# Altium footprint library PCB1.PcbLib: 43 footprints (part 1 of 3)
Each footprint in its own frame and in the unit in brackets; x right, y up, seen from the top. Pads: shape width x height; smd on the part's side, far side on the other; paste and mask are expansions set on the pad; w line width, h text height; cw(c..) or ccw(c..) is an arc to the next point about the centre after c.
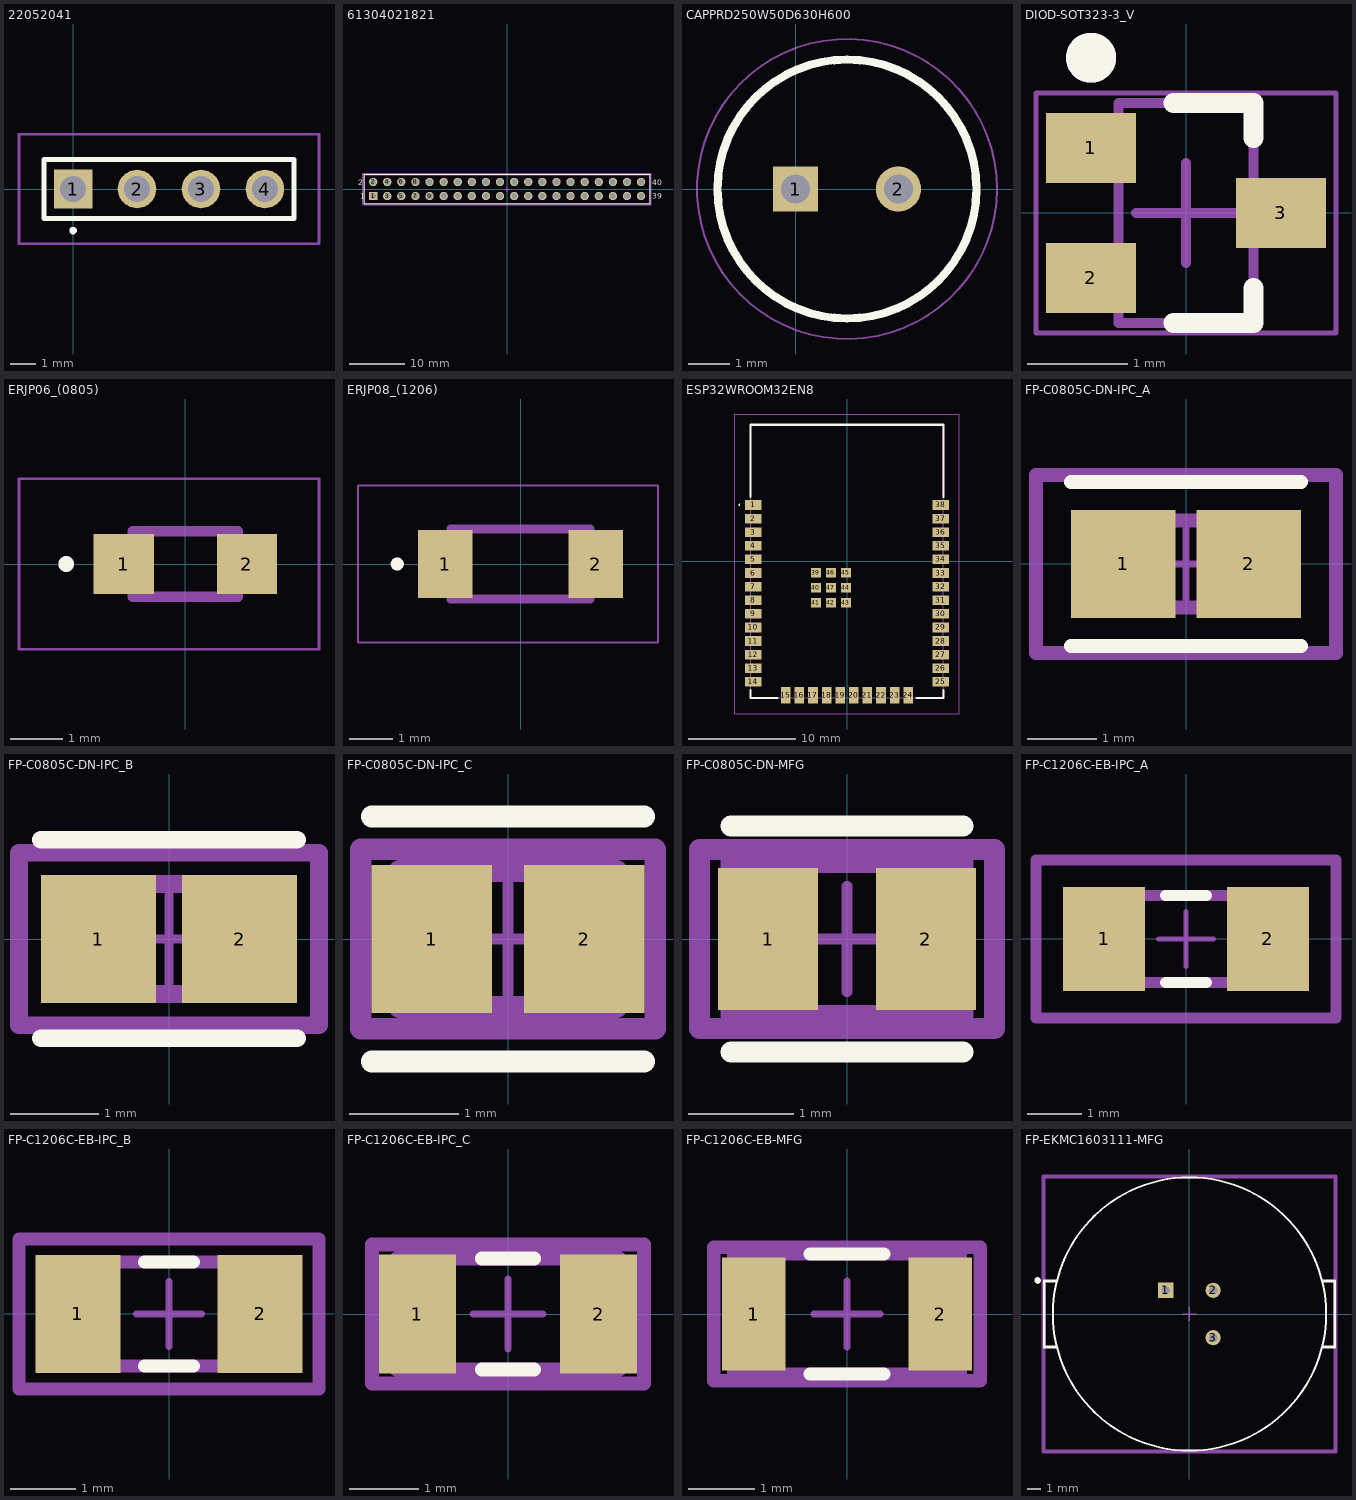
[diagram p0: the footprints below, top view; thin cyan lines are the x and y axes]

## 22052041 [mm]
pads (4):
  rect 1.53x1.53 hole 1.02: 1(0,0)
  round 1.53 hole 1.02: 2(2.54,0) 3(5.08,0) 4(7.62,0)
Top Overlay:
  lines w0.2: 0,-1.7 cw(c0,-1.65) 0,-1.6 ; 0,-1.7 ccw(c0,-1.65) 0,-1.6 ; 0,-1.7 cw(c0,-1.65) 0,-1.6 ; -1.145,-1.18 8.765,-1.18 8.765,1.18 -1.145,1.18 -1.145,-1.18
Top Assembly:
  lines w0.1: -1.145,-1.18 8.765,-1.18 8.765,1.18 -1.145,1.18 -1.145,-1.18
  text "'.Designator'" at -0.9,-0.812 h1
Top 3D Body:
  lines w0.1: -1.145,-1.18 8.765,-1.18 8.765,1.18 -1.145,1.18 -1.145,-1.18
Top Courtyard:
  lines w0.1: -2.145,-2.18 9.765,-2.18 9.765,2.18 -2.145,2.18 -2.145,-2.18
3D body "22-05-2041.stp": height 6.3, standoff -3.15, extent -1.143,-1.149 8.763,9.023

## 61304021821 [mm] "Socket Header, Pitch 2.54 mm, THT, Vertical, dual row, 40p"
height 8.4
pads (40):
  rect 1.5x1.5 hole 1.02: 1(-24.13,-1.27)
  round 1.5 hole 1.02: 2(-24.13,1.27) 3(-21.59,-1.27) 4(-21.59,1.27) 5(-19.05,-1.27) 6(-19.05,1.27) 7(-16.51,-1.27) 8(-16.51,1.27) 9(-13.97,-1.27) 10(-13.97,1.27) 11(-11.43,-1.27) 12(-11.43,1.27) 13(-8.89,-1.27) 14(-8.89,1.27) 15(-6.35,-1.27) 16(-6.35,1.27) 17(-3.81,-1.27) 18(-3.81,1.27) 19(-1.27,-1.27) 20(-1.27,1.27) 21(1.27,-1.27) 22(1.27,1.27) 23(3.81,-1.27) 24(3.81,1.27) 25(6.35,-1.27) 26(6.35,1.27) 27(8.89,-1.27) 28(8.89,1.27) 29(11.43,-1.27) 30(11.43,1.27) 31(13.97,-1.27) 32(13.97,1.27) 33(16.51,-1.27) 34(16.51,1.27) 35(19.05,-1.27) 36(19.05,1.27) 37(21.59,-1.27) 38(21.59,1.27) 39(24.13,-1.27) 40(24.13,1.27)
Top Overlay:
  lines w0.2: -25.775,-2.615 -25.775,2.615 25.775,2.615 25.775,-2.615 -25.775,-2.615
  text "39" at 26.16,-1.8 h1.02
  text "40" at 26.16,0.7 h1.02
  text "2" at -26.86,0.7 h1.02
  text "1" at -26.46,-1.8 h1.02
Top Assembly:
  lines w0.1: -25.65,-2.54 25.65,-2.54 25.65,2.54 -25.65,2.54 -25.65,-2.54
  text "'.Designator'" at -25.2,-2.012 h1
Top 3D Body:
  lines w0.1: -25.65,-2.54 25.65,-2.54 25.65,2.54 -25.65,2.54 -25.65,-2.54
Top Courtyard:
  lines w0.05: -0.5,0 0.5,0 ; 0,-0.5 0,0.5 ; -25.975,-2.815 25.975,-2.815 25.975,2.815 -25.975,2.815 -25.975,-2.815
3D body "61304021821.stp": height 8.45, standoff -3.05, extent -25.65,-2.54 25.65,2.54

## CAPPRD250W50D630H600 [mm]
pads (2):
  rect 1.1x1.1 hole 0.7: 1(0,0)
  round 1.1 hole 0.7: 2(2.5,0)
Top Overlay:
  circle w0.2: c1.25,0 r3.15
Top Assembly:
  circle w0.1: c1.25,0 r3.15
  text "'.Designator'" at -1.1,-1.412 h1
Top 3D Body:
  circle w0.1: c1.25,0 r3.15
Top Courtyard:
  circle w0.05: c1.25,0 r3.65
3D body "ECE-A0JKS101B.stp": height 6, standoff -10, extent -2.15,-3.4 4.65,3.4

## DIOD-SOT323-3_V [mm] "SOT323, 3-Leads, Body 2.2x1.35mm, Pitch 0.65mm"
height 1.071
pads (3):
  rect 0.9x0.7 smd: 1(-0.95,0.65) 2(-0.95,-0.65) 3(0.95,0)
Top Overlay:
  circle w0.25: c-0.95,1.55 r0.125
  lines w0.2: -0.125,-1.1 0.675,-1.1 0.675,-0.75 ; -0.125,1.1 0.675,1.1 0.675,0.75
Top Assembly:
  circle w0.25: c-0.95,1.55 r0.125
  lines w0.1: -0.675,-1.1 0.675,-1.1 0.675,1.1 -0.675,1.1 -0.675,-1.1
  text "'.Designator'" at 0.312,-0.9 h1
Top 3D Body:
  lines w0.1: -0.675,-1.1 0.675,-1.1 0.675,1.1 -0.675,1.1 -0.675,-1.1
Top Courtyard:
  lines w0.05: -1.5,-1.2 1.5,-1.2 1.5,1.2 -1.5,1.2 -1.5,-1.2
  lines w0.1: -0.5,0 0.5,0 ; 0,-0.5 0,0.5
3D body "SOT65P210X107-3L.step": height 1.07, standoff 0, extent -1.1,-1.1 1.1,1.1

## ERJP06_(0805) [mm]
pads (2):
  rect 1.15x1.15 smd: 1(-1.175,0) 2(1.175,0)
Top Overlay:
  circle w0.2: c-2.275,0 r0.05
Top Assembly:
  lines w0.2: -1,-0.625 -1,0.625 1,0.625 1,-0.625 -1,-0.625
  text "'.Designator'" at -0.85,-0.287 h1
Top 3D Body:
  lines w0.2: -1,-0.625 -1,0.625 1,0.625 1,-0.625 -1,-0.625
Top Courtyard:
  lines w0.05: -3.175,-1.625 -3.175,1.625 2.55,1.625 2.55,-1.625 -3.175,-1.625
3D body "ERJ-P06D6801V.stp": height 0.6, standoff 0, extent -1,-0.625 1,0.625

## ERJP08_(1206) [mm]
pads (2):
  rect 1.25x1.55 smd: 1(-1.725,0) 2(1.725,0)
Top Overlay:
  circle w0.2: c-2.825,0 r0.05
Top Assembly:
  lines w0.2: -1.6,-0.8 1.6,-0.8 1.6,0.8 -1.6,0.8 -1.6,-0.8
  text "'.Designator'" at -1.375,-0.412 h1
Top 3D Body:
  lines w0.2: -1.6,-0.8 1.6,-0.8 1.6,0.8 -1.6,0.8 -1.6,-0.8
Top Courtyard:
  lines w0.05: -3.725,-1.8 3.15,-1.8 3.15,1.8 -3.725,1.8 -3.725,-1.8
3D body "ERJ-P08D1002V.stp": height 0.6, standoff 0, extent -1.6,-0.8 1.6,0.8

## ESP32WROOM32EN8 [mm]
pads (47):
  rect 1.5x0.9 smd: 1(-8.75,5.26) 2(-8.75,3.99) 3(-8.75,2.72) 4(-8.75,1.45) 5(-8.75,0.18) 6(-8.75,-1.09) 7(-8.75,-2.36) 8(-8.75,-3.63) 9(-8.75,-4.9) 10(-8.75,-6.17) 11(-8.75,-7.44) 12(-8.75,-8.71) 13(-8.75,-9.98) 14(-8.75,-11.25) 25(8.75,-11.25) 26(8.75,-9.98) 27(8.75,-8.71) 28(8.75,-7.44) 29(8.75,-6.17) 30(8.75,-4.9) 31(8.75,-3.63) 32(8.75,-2.36) 33(8.75,-1.09) 34(8.75,0.18) 35(8.75,1.45) 36(8.75,2.72) 37(8.75,3.99) 38(8.75,5.26)
  rect 0.9x1.5 smd: 15(-5.715,-12.5) 16(-4.445,-12.5) 17(-3.175,-12.5) 18(-1.905,-12.5) 19(-0.635,-12.5) 20(0.635,-12.5) 21(1.905,-12.5) 22(3.175,-12.5) 23(4.445,-12.5) 24(5.715,-12.5)
  rect 0.9x0.9 smd: 39(-2.9,-1.06) 40(-2.9,-2.46) 41(-2.9,-3.86) 42(-1.5,-3.86) 43(-0.1,-3.86) 44(-0.1,-2.46) 45(-0.1,-1.06) 46(-1.5,-1.06) 47(-1.5,-2.46)
Top Overlay:
  lines w0.1: -10.1,5.26 cw(c-10.05,5.26) -10,5.26 cw(c-10.05,5.26) -10.1,5.26
  lines w0.2: -9,-12 -9,-12.75 -6.5,-12.75 ; -9,6 -9,12.75 9,12.75 9,6 ; 6.5,-12.75 9,-12.75 9,-12
Top 3D Body:
  lines w0.1: -9,-12.75 -9,12.75 9,12.75 9,-12.75 -9,-12.75
Top Courtyard:
  lines w0.1: -10.5,-14.25 -10.5,13.75 10.5,13.75 10.5,-14.25 -10.5,-14.25
3D body "ESP32-WROOM-32E-N8.stp": height 3.35, standoff 0, extent -9,-12.75 9,12.75

## FP-C0805C-DN-IPC_A [mm]
pads (2):
  rect 1.505x1.556 smd paste+0 mask+0: 1(-0.901,0) 2(0.901,0)
Top Overlay:
  lines w0.2: -1.653,-1.178 1.653,-1.178 ; -1.653,1.178 1.653,1.178
Top Assembly:
  lines w0.2: -2.153,-1.278 -2.153,1.278 2.153,1.278 2.153,-1.278 -2.153,-1.278
  text ".Designator" at 0,0.188 h1
Top 3D Body:
  lines w0.2: -1,-0.625 -1,0.625 1,0.625 1,-0.625 -1,-0.625
Top Courtyard:
  lines w0.2: -2.153,-1.278 -2.153,1.278 2.153,1.278 2.153,-1.278 -2.153,-1.278
Top Component Center:
  lines w0.1: -0.5,0 0.5,0 ; 0,-0.5 0,0.5
3D body "Cap_KEMET_C0805C472J3HAC_eec.STEP": height 0.25, standoff 0, extent -2.153,-1.278 2.153,1.278

## FP-C0805C-DN-IPC_B [mm]
pads (2):
  rect 1.305x1.456 smd paste+0 mask+0: 1(-0.801,0) 2(0.801,0)
Top Overlay:
  lines w0.2: -1.453,-1.128 1.453,-1.128 ; -1.453,1.128 1.453,1.128
Top Assembly:
  lines w0.2: -1.703,-0.978 -1.703,0.978 1.703,0.978 1.703,-0.978 -1.703,-0.978
  text ".Designator" at 0,0.188 h1
Top 3D Body:
  lines w0.2: -1,-0.625 -1,0.625 1,0.625 1,-0.625 -1,-0.625
Top Courtyard:
  lines w0.2: -1.703,-0.978 -1.703,0.978 1.703,0.978 1.703,-0.978 -1.703,-0.978
Top Component Center:
  lines w0.1: -0.5,0 0.5,0 ; 0,-0.5 0,0.5
3D body "Cap_KEMET_C0805C472J3HAC_eec.STEP": height 0.25, standoff 0, extent -1.703,-0.978 1.703,0.978

## FP-C0805C-DN-IPC_C [mm]
pads (2):
  rect 1.105x1.356 smd paste+0 mask+0: 1(-0.701,0) 2(0.701,0)
Top Overlay:
  lines w0.2: -1.253,-1.125 1.253,-1.125 ; -1.253,1.125 1.253,1.125
Top Assembly:
  lines w0.2: -1.353,-0.825 -1.353,0.825 1.353,0.825 1.353,-0.825 -1.353,-0.825
  text ".Designator" at 0,0.188 h1
Top 3D Body:
  lines w0.2: -1,-0.625 -1,0.625 1,0.625 1,-0.625 -1,-0.625
Top Courtyard:
  lines w0.2: -1.353,-0.825 -1.353,0.825 1.353,0.825 1.353,-0.825 -1.353,-0.825
Top Component Center:
  lines w0.1: -0.5,0 0.5,0 ; 0,-0.5 0,0.5
3D body "Cap_KEMET_C0805C472J3HAC_eec.STEP": height 0.25, standoff 0, extent -1.353,-0.825 1.353,0.825

## FP-C0805C-DN-MFG [mm]
pads (2):
  rect 0.95x1.35 smd paste+0 mask+0: 1(-0.75,0) 2(0.75,0)
Top Overlay:
  lines w0.2: -1.1,-1.075 1.1,-1.075 ; -1.1,1.075 1.1,1.075
Top Assembly:
  lines w0.2: -1.4,-0.85 -1.4,0.85 1.4,0.85 1.4,-0.85 -1.4,-0.85
  text ".Designator" at 0,0.188 h1
Top 3D Body:
  lines w0.2: -1.1,-0.725 -1.1,0.725 1.1,0.725 1.1,-0.725 -1.1,-0.725
Top Courtyard:
  lines w0.2: -1.4,-0.85 -1.4,0.85 1.4,0.85 1.4,-0.85 -1.4,-0.85
Top Component Center:
  lines w0.1: -0.5,0 0.5,0 ; 0,-0.5 0,0.5
3D body "Cap_KEMET_C0805C472J3HAC_eec.STEP": height 0.25, standoff 0, extent -1.4,-0.85 1.4,0.85

## FP-C1206C-EB-IPC_A [mm]
pads (2):
  rect 1.505x1.906 smd paste+0 mask+0: 1(-1.501,0) 2(1.501,0)
Top Overlay:
  lines w0.2: -0.373,-0.8 0.373,-0.8 ; -0.373,0.8 0.373,0.8
Top Assembly:
  lines w0.2: -2.753,-1.453 2.753,-1.453 2.753,1.453 -2.753,1.453 -2.753,-1.453
  text ".Designator" at 0,0.188 h1
Top 3D Body:
  lines w0.2: -1.6,-0.8 1.6,-0.8 1.6,0.8 -1.6,0.8 -1.6,-0.8
Top Courtyard:
  lines w0.2: -2.753,-1.453 2.753,-1.453 2.753,1.453 -2.753,1.453 -2.753,-1.453
Top Component Center:
  lines w0.1: -0.5,0 0.5,0 ; 0,-0.5 0,0.5
3D body "Cap_KEMET_C1206C472K4RACTU_eec.STEP": height 0.25, standoff 0, extent -2.753,-1.453 2.753,1.453

## FP-C1206C-EB-IPC_B [mm]
pads (2):
  rect 1.305x1.806 smd paste+0 mask+0: 1(-1.401,0) 2(1.401,0)
Top Overlay:
  lines w0.2: -0.373,-0.8 0.373,-0.8 ; -0.373,0.8 0.373,0.8
Top Assembly:
  lines w0.2: -2.303,-1.153 2.303,-1.153 2.303,1.153 -2.303,1.153 -2.303,-1.153
  text ".Designator" at 0,0.188 h1
Top 3D Body:
  lines w0.2: -1.6,-0.8 1.6,-0.8 1.6,0.8 -1.6,0.8 -1.6,-0.8
Top Courtyard:
  lines w0.2: -2.303,-1.153 2.303,-1.153 2.303,1.153 -2.303,1.153 -2.303,-1.153
Top Component Center:
  lines w0.1: -0.5,0 0.5,0 ; 0,-0.5 0,0.5
3D body "Cap_KEMET_C1206C472K4RACTU_eec.STEP": height 0.25, standoff 0, extent -2.303,-1.153 2.303,1.153

## FP-C1206C-EB-IPC_C [mm]
pads (2):
  rect 1.105x1.706 smd paste+0 mask+0: 1(-1.301,0) 2(1.301,0)
Top Overlay:
  lines w0.2: -0.373,-0.8 0.373,-0.8 ; -0.373,0.8 0.373,0.8
Top Assembly:
  lines w0.2: -1.953,-1 -1.953,1 1.953,1 1.953,-1 -1.953,-1
  text ".Designator" at 0,0.188 h1
Top 3D Body:
  lines w0.2: -1.6,-0.8 -1.6,0.8 1.6,0.8 1.6,-0.8 -1.6,-0.8
Top Courtyard:
  lines w0.2: -1.953,-1 -1.953,1 1.953,1 1.953,-1 -1.953,-1
Top Component Center:
  lines w0.1: -0.5,0 0.5,0 ; 0,-0.5 0,0.5
3D body "Cap_KEMET_C1206C472K4RACTU_eec.STEP": height 0.25, standoff 0, extent -1.953,-1 1.953,1

## FP-C1206C-EB-MFG [mm]
pads (2):
  rect 0.95x1.7 smd paste+0 mask+0: 1(-1.4,0) 2(1.4,0)
Top Overlay:
  lines w0.2: -0.55,-0.9 0.55,-0.9 ; -0.55,0.9 0.55,0.9
Top Assembly:
  lines w0.2: -2,-1 2,-1 2,1 -2,1 -2,-1
  text ".Designator" at 0,0.188 h1
Top 3D Body:
  lines w0.2: -1.7,-0.9 1.7,-0.9 1.7,0.9 -1.7,0.9 -1.7,-0.9
Top Courtyard:
  lines w0.2: -2,-1 2,-1 2,1 -2,1 -2,-1
Top Component Center:
  lines w0.1: -0.5,0 0.5,0 ; 0,-0.5 0,0.5
3D body "Cap_KEMET_C1206C472K4RACTU_eec.STEP": height 0.25, standoff 0, extent -2,-1 2,1

## FP-EKMC1603111-MFG [mm]
pads (3):
  rect 1.15x1.15 hole 0.65 paste-1000 mask+0: 1(-1.796,1.796)
  round 1.15 hole 0.65 paste-1000 mask+0: 2(1.796,1.796) 3(1.796,-1.796)
Top Overlay:
  circle w0.15: c0,0 r10.35
  circle w0.25: c-11.5,2.54 r0.125
  lines w0.2: -10.1,-2.5 -11,-2.5 -11,2.5 -10.1,2.5 ; 10.1,-2.5 11,-2.5 11,2.5 10.1,2.5
Top Assembly:
  lines w0.2: -11.1,-10.45 11.1,-10.45 11.1,10.45 -11.1,10.45 -11.1,-10.45
  text ".Designator" at 0,0 h1
Top 3D Body:
  lines w0.2: -11,-10.35 11,-10.35 11,10.35 -11,10.35 -11,-10.35
Top Courtyard:
  lines w0.2: -11.1,-10.45 11.1,-10.45 11.1,10.45 -11.1,10.45 -11.1,-10.45
Top Component Center:
  lines w0.1: -0.5,0 0.5,0 ; 0,-0.5 0,0.5
3D body "UNK_Panasonic_Electric_Works_EKMC1603111_eec.STEP": height 0.25, standoff 0, extent -11.1,-10.45 11.1,10.45